# EAGLE library part ESDA6V1S3 (library st)
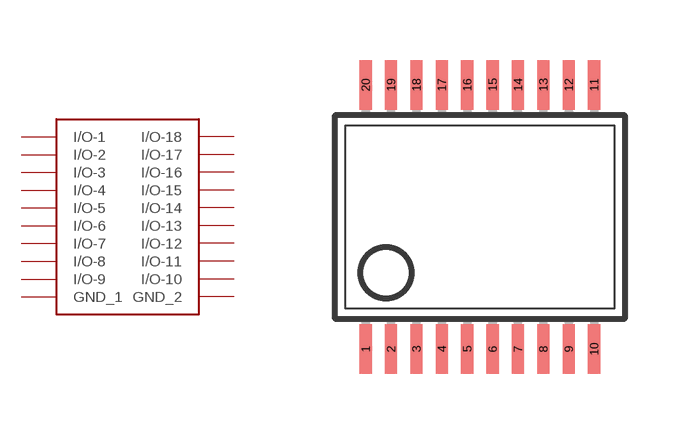
[diagram p6: symbol with the pads of SSOP20; footprint SSOP20]

Designator prefix -

## ESDA6V1S3  [SSOP20]
1  I/O-1
2  I/O-2
3  I/O-3
4  I/O-4
5  I/O-5
6  GND_1  pwr
7  I/O-6
8  I/O-7
9  I/O-8
10  I/O-9
11  I/O-10
12  I/O-11
13  I/O-12
14  I/O-13
15  I/O-14
16  GND_2  pwr
17  I/O-15
18  I/O-16
19  I/O-17
20  I/O-18

## Footprint SSOP20 (pad centres in mm)
Small Shrink Outline Package
smd 0.305 x 1.245: 1 -2.857,-3.302; 2 -2.222,-3.302; 3 -1.587,-3.302; 4 -0.952,-3.302; 5 -0.317,-3.302; 6 0.318,-3.302; 7 0.953,-3.302; 8 1.588,-3.302; 9 2.223,-3.302; 10 2.858,-3.302; 11 2.858,3.302; 12 2.223,3.302; 13 1.588,3.302; 14 0.953,3.302; 15 0.318,3.302; 16 -0.317,3.302; 17 -0.952,3.302; 18 -1.587,3.302; 19 -2.222,3.302; 20 -2.857,3.302